# Altium integrated library Motorola Automotive Voltage Regulator.IntLib: 1 symbol
Pins are listed as number, name and electrical type; pins without a type are passive.

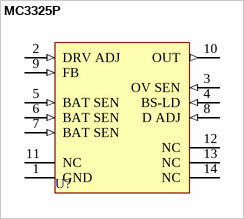
[diagram p0: symbol MC3325P]

## MC3325P
designator U?
Automotive Voltage Regulator; Published: 17-Jul-2002; LatestRevisionDate: 06-Jun-2005; LatestRevisionNote: Stylized 3D Model Added.; DatasheetVersion: 1988; PackageVersion: 1997; PackageReference: 646-06; Publisher: Altium Limited; PackageDescription: DIP; 14 Leads; Row Spacing 7.62 mm; Pitch 2.54 mm
footprint 646-06 (DIP; 14 Leads; Row Spacing 7.62 mm; Pitch 2.54 mm)
3D model 646-06 (DIP; 14 Leads; Row Spacing 7.62 mm; Pitch 2.54 mm)
pins: 1 GND (power), 2 DRV ADJ (in), 3 OV SEN (in), 4 BS-LD (in), 5 BAT SEN (in), 6 BAT SEN (in), 7 BAT SEN (in), 8 D ADJ (in), 9 FB (in), 10 OUT (out), 11 NC, 12 NC, 13 NC, 14 NC